# EAGLE library part POWER (library lsd2016)
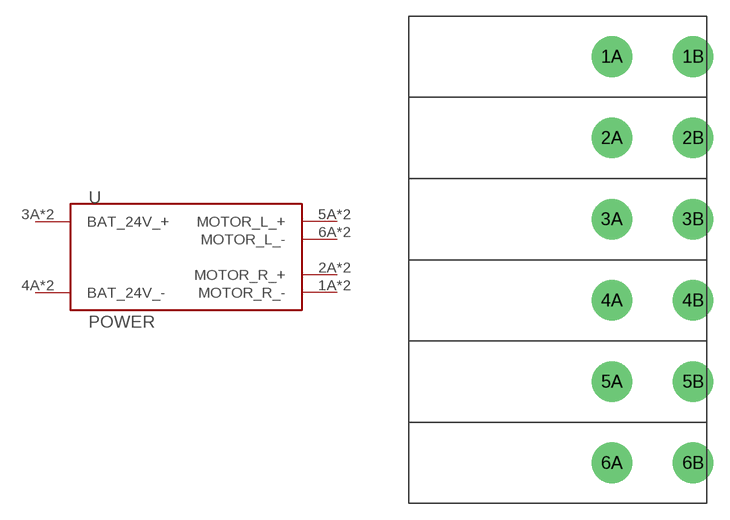
[diagram p1: symbol with the pads of CON_POWER; footprint CON_POWER]

Designator prefix -

## POWER  [CON_POWER]
1A  MOTOR_R_-  pwr
1B  MOTOR_R_-  pwr
2A  MOTOR_R_+  pwr
2B  MOTOR_R_+  pwr
3A  BAT_24V_+  pwr
3B  BAT_24V_+  pwr
4A  BAT_24V_-  pwr
4B  BAT_24V_-  pwr
5A  MOTOR_L_+  pwr
5B  MOTOR_L_+  pwr
6A  MOTOR_L_-  pwr
6B  MOTOR_L_-  pwr

## Footprint CON_POWER (pad centres in mm)
drill 1.3 pad 3.81: 1A 0,19.05; 1B 7.62,19.05; 2A 0,11.43; 2B 7.62,11.43; 3A 0,3.81; 3B 7.62,3.81; 4A 0,-3.81; 4B 7.62,-3.81; 5A 0,-11.43; 5B 7.62,-11.43; 6A 0,-19.05; 6B 7.62,-19.05